# Altium footprint library 12BH311PRGR.PcbLib: 1 footprints
Each footprint in its own frame and in the unit in brackets; x right, y up, seen from the top. Pads: shape width x height; smd on the part's side, far side on the other; paste and mask are expansions set on the pad; w line width, h text height; cw(c..) or ccw(c..) is an arc to the next point about the centre after c.
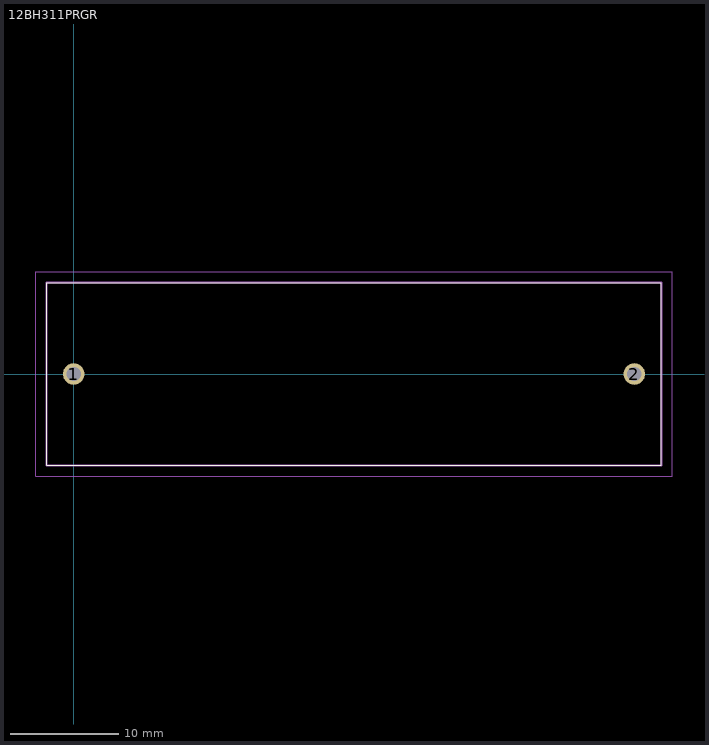
[diagram p0: the footprint, top view; thin cyan lines are the x and y axes]

## 12BH311PRGR [mm]
pads (2):
  round 1.995 hole 1.33: 1(0,0) 2(51.8,0)
Top Overlay:
  lines w0.1: -2.5,-8.45 -2.5,8.45 54.3,8.45 54.3,-8.45 -2.5,-8.45
Mechanical 15:
  lines w0.2: -2.5,-8.45 -2.5,8.45 54.3,8.45 54.3,-8.45 -2.5,-8.45
Mechanical 20:
  lines w0.1: -3.5,-9.45 -3.5,9.45 55.3,9.45 55.3,-9.45 -3.5,-9.45
3D body: height 13, standoff 0, extent -2.61,-8.382 54.286,8.509